# Altium footprint library Nixielib.PcbLib: 35 footprints (part 3 of 3)
Each footprint in its own frame and in the unit in brackets; x right, y up, seen from the top. Pads: shape width x height; smd on the part's side, far side on the other; paste and mask are expansions set on the pad; w line width, h text height; cw(c..) or ccw(c..) is an arc to the next point about the centre after c.
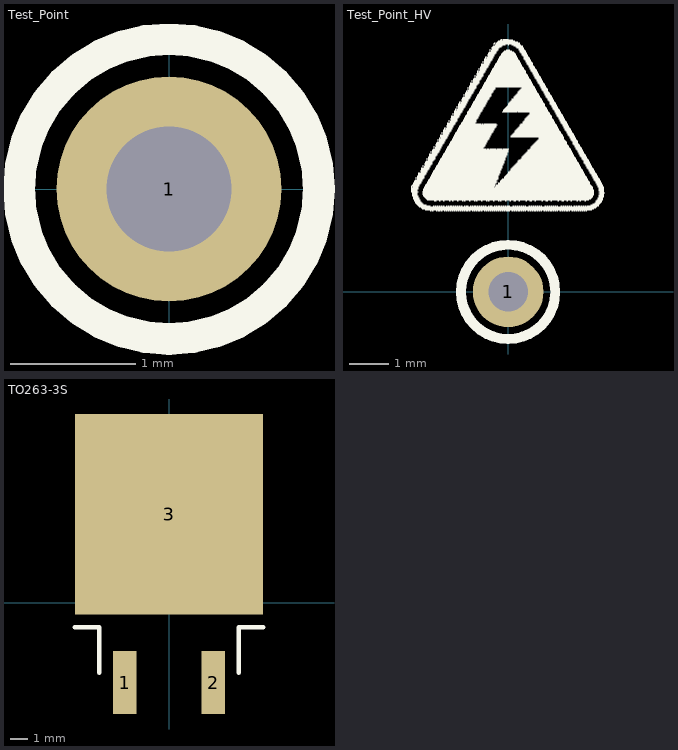
[diagram p2: the footprints below, top view; thin cyan lines are the x and y axes]

## Test_Point [mm]
pads (1):
  round 1.8 hole 1: 1(0,0)
Top Overlay:
  circle w0.254: c0,0 r1.2

## Test_Point_HV [mm]
pads (1):
  round 1.8 hole 1: 1(0,0)
Top Overlay:
  drawing of 778 lines, arcs and shapes, not listed

## TO263-3S [mm]
pads (3):
  rect 1.35x3.6 smd: 1(-2.54,-4.575) 2(2.54,-4.575)
  rect 10.8x11.5 smd: 3(0,5.075)
Top Overlay:
  lines w0.254: -5.4,-1.4 -4,-1.4 -4,-4 ; 4,-4 4,-2 4,-1.4 5.4,-1.4
3D body "User Library-TO263-3S.STEP": height 4.78, standoff -0.02, extent -5,-5.49 5,10.18